# Altium footprint library Diodes.PCBLIB: 44 footprints (part 3 of 3)
Each footprint in its own frame and in the unit in brackets; x right, y up, seen from the top. Pads: shape width x height; smd on the part's side, far side on the other; paste and mask are expansions set on the pad; w line width, h text height; cw(c..) or ccw(c..) is an arc to the next point about the centre after c.
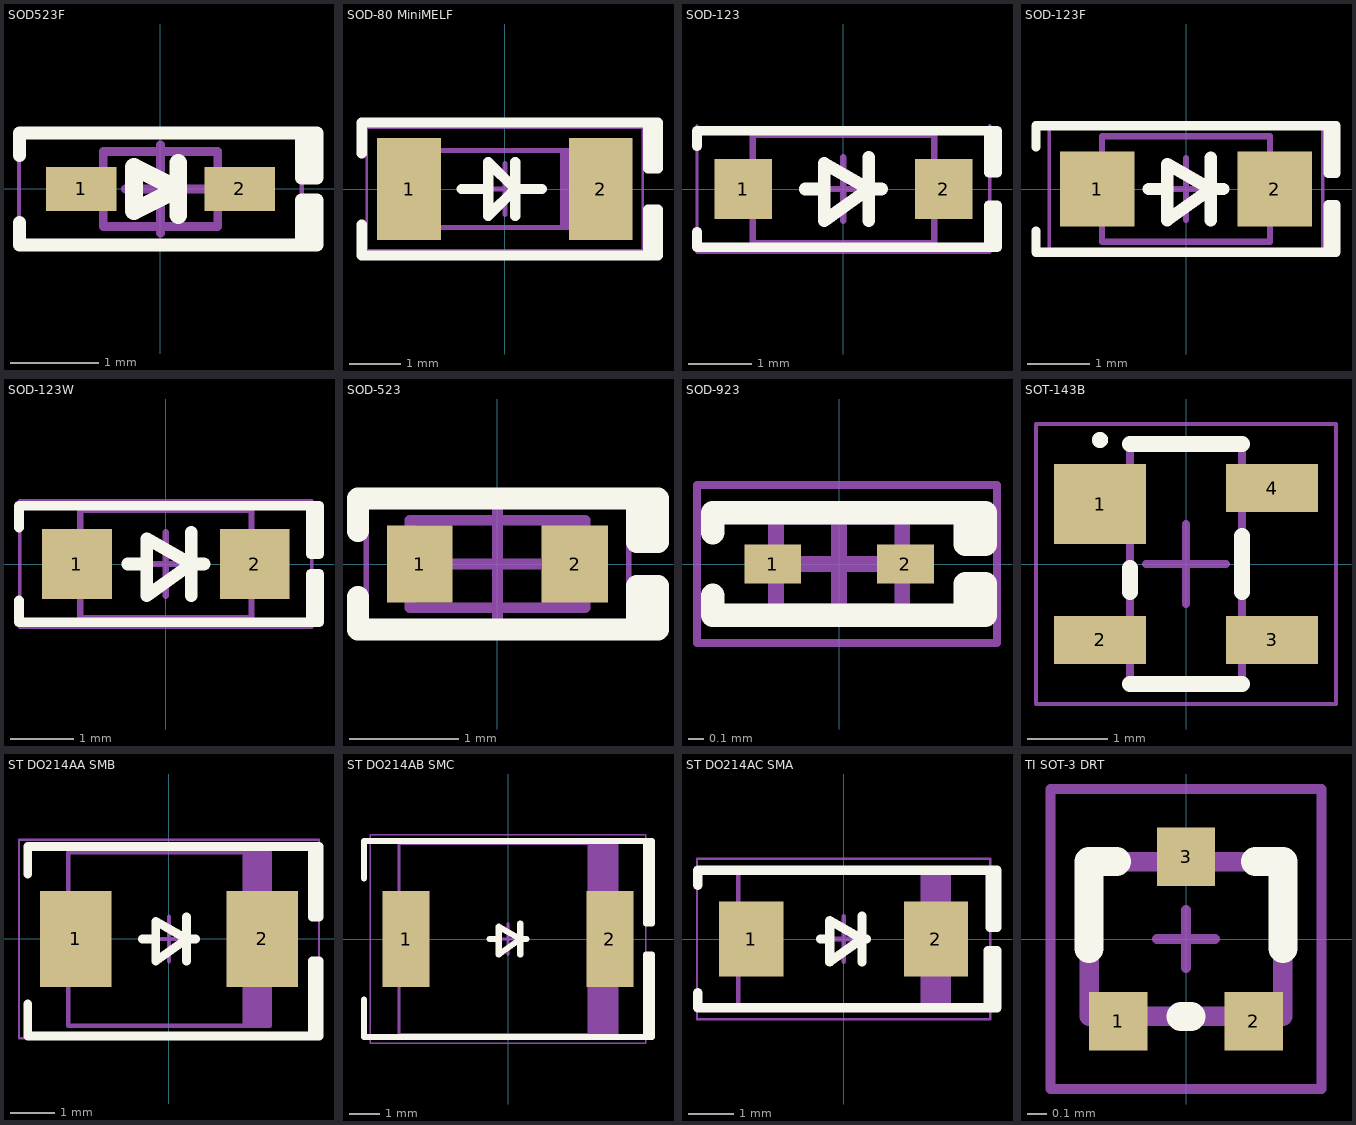
[diagram p2: the footprints below, top view; thin cyan lines are the x and y axes]

## SOD523F [mm] "SODFL, 2-Leads, Body 0.80x1.60mm, IPC Medium Density"
height 0.77
pads (2):
  rect 0.8x0.5 smd: 1(-0.9,0) 2(0.9,0)
Top Overlay:
  rectangle: 1.6,0.127 1.778,0.635
  rectangle: 1.6,-0.6 1.8,-0.127
  lines w0.15: -1.6,-0.381 -1.6,-0.635 1.651,-0.635 ; -1.6,0.381 -1.6,0.635 1.651,0.635 ; 1.6,-0.635 1.778,-0.635 1.778,-0.127 1.6,-0.127 1.6,-0.635 ; 1.6,0.127 1.6,0.635 1.778,0.635 1.778,0.127 1.6,0.127
  lines w0.2: 0.2,-0.3 0.2,0.3 ; -0.3,-0.25 -0.3,-0.1 -0.3,0.25 0.2,0 -0.3,-0.25
Mechanical 13:
  lines w0.1: -0.65,-0.425 0.65,-0.425 0.65,0.425 -0.65,0.425 -0.65,-0.425
Mechanical 15:
  lines w0.05: -1.606,-0.6 1.606,-0.6 1.606,0.6 -1.606,0.6 -1.606,-0.6
  lines w0.1: -0.4,0 0.6,0 ; 0,-0.5 0,0.5
3D body "SOD523F.STEP": height 0.65, standoff 0, extent -0.8,-0.4 0.8,0.4

## SOD-80 MiniMELF [mm] "Molded Diode, 2-Leads, Body 3.40x1.50mm, IPC Medium Density"
height 1.5
pads (2):
  rect 1.25x2 smd: 1(-1.875,0) 2(1.875,0)
Top Overlay:
  lines w0.2: -2.8,-0.7 -2.8,-1.3 2.994,-1.3 2.994,-0.4 2.8,-0.4 2.8,-1.2 ; -2.8,0.7 -2.8,1.3 2.994,1.3 2.994,0.4 2.8,0.4 2.8,1.2 ; -0.85,0 -0.325,0 ; 0.2,-0.525 0.2,0.525 ; 0.725,0 0.2,0 ; 0.2,0 -0.325,-0.525 -0.325,0.525 0.2,0
Mechanical 13:
  rectangle: 1.081,-0.75 1.7,0.75
  lines w0.1: -1.7,-0.75 -1.7,0.75 1.7,0.75 1.7,-0.75 -1.7,-0.75
Mechanical 15:
  lines w0.05: -2.7,-1.2 2.7,-1.2 2.7,1.2 -2.7,1.2 -2.7,-1.2
  lines w0.1: -0.5,0 0.5,0 ; 0,-0.5 0,0.5
3D body "SOD-80 MiniMELF.step": height 1.5, standoff 0, extent -1.7,-0.751 1.7,0.751

## SOD-123 [mm] "SOD, 2-Leads, Body 1.55x3.70mm, IPC Medium Density"
height 1.35
pads (2):
  rect 0.9x0.95 smd: 1(-1.575,0) 2(1.575,0)
Top Overlay:
  lines w0.15: -2.3,-0.675 -2.3,-0.916 2.286,-0.916 ; -2.3,0.675 -2.3,0.916 2.286,0.916 ; 2.286,-0.916 2.413,-0.916 2.413,-0.254 2.286,-0.254 2.286,-0.916 ; 2.286,0.916 2.286,0.254 2.413,0.254 2.413,0.916 2.286,0.916
  lines w0.2: -0.6,0 -0.3,0 ; 0.4,-0.5 0.4,0.5 ; 0.6,0 0.4,0 ; 0.4,0 -0.3,0.4 -0.3,-0.5 0.4,0
Mechanical 13:
  lines w0.1: -1.425,-0.85 -1.425,0.85 1.425,0.85 1.425,-0.85 -1.425,-0.85
Mechanical 15:
  lines w0.05: -2.3,0.9 2.3,0.9 ; -2.3,1 -2.3,-1 2.3,-1 2.3,1
  lines w0.1: -0.5,0 0.5,0 ; 0,-0.5 0,0.5
3D body "SOD-123.STEP": height 1.35, standoff 0, extent -1.864,-0.775 1.864,0.775

## SOD-123F [mm] "SODFL, 2-Leads, Body 1.60x3.50mm, IPC Medium Density"
height 1
pads (2):
  rect 1.2x1.2 smd: 1(-1.43,0) 2(1.43,0)
Top Overlay:
  lines w0.15: -2.413,-0.675 -2.413,-1.016 2.286,-1.016 ; -2.413,0.675 -2.413,1.016 2.286,1.016 ; 2.286,-1.016 2.286,-0.254 2.413,-0.254 2.413,-1.016 2.286,-1.016 ; 2.286,1.016 2.413,1.016 2.413,0.254 2.286,0.254 2.286,1.016
  lines w0.2: -0.6,0 -0.3,0 ; 0.4,-0.5 0.4,0.5 ; 0.6,0 0.4,0 ; 0.4,0 -0.3,-0.5 -0.3,0.4 0.4,0
Mechanical 13:
  lines w0.1: -1.35,-0.85 1.35,-0.85 1.35,0.85 -1.35,0.85 -1.35,-0.85
Mechanical 15:
  lines w0.05: -2.2,-1 2.2,-1 2.2,1 -2.2,1 -2.2,-1
  lines w0.1: -0.5,0 0.5,0 ; 0,-0.5 0,0.5
3D body "SOD123F.STEP": height 1.1, standoff 0, extent -1.75,-0.8 1.75,0.8

## SOD-123W [mm] "SODFL, 2-Leads, Body 1.60x3.50mm, IPC Medium Density"
height 1
pads (2):
  rect 1.1x1.1 smd: 1(-1.4,0) 2(1.4,0)
Top Overlay:
  lines w0.15: -2.313,-0.575 -2.313,-0.916 2.286,-0.916 ; -2.313,0.575 -2.313,0.916 2.286,0.916 ; 2.286,-0.916 2.413,-0.916 2.413,-0.154 2.286,-0.154 2.286,-0.916 ; 2.286,0.916 2.286,0.154 2.413,0.154 2.413,0.916 2.286,0.916
  lines w0.2: -0.6,0 -0.3,0 ; 0.4,-0.5 0.4,0.5 ; 0.6,0 0.4,0 ; 0.4,0 -0.3,0.4 -0.3,-0.5 0.4,0
Mechanical 13:
  lines w0.1: -1.35,-0.85 -1.35,0.85 1.35,0.85 1.35,-0.85 -1.35,-0.85
Mechanical 15:
  lines w0.05: -2.3,-1 -2.3,1 2.3,1 2.3,-1 -2.3,-1
  lines w0.1: -0.5,0 0.5,0 ; 0,-0.5 0,0.5
3D body "Nexperia - SOD-123W.step": height 0.95, standoff -0.15, extent -1.75,-0.87 1.75,0.87

## SOD-523 [mm] "Molded Diode, 2-Leads, Body 1.60x0.80mm, IPC Medium Density"
height 0.77
pads (2):
  rect 0.6x0.7 smd: 1(-0.71,0) 2(0.71,0)
Top Overlay:
  lines w0.2: -1.275,-0.3 -1.275,-0.6 1.469,-0.6 1.469,-0.2 1.275,-0.2 1.275,-0.6 ; -1.275,0.3 -1.275,0.6 1.469,0.6 1.469,0.2 1.275,0.2 1.275,0.6
Mechanical 13:
  rectangle: 0.4,-0.4 0.8,0.4
  lines w0.1: -0.8,-0.4 -0.8,0.4 0.8,0.4 0.8,-0.4 -0.8,-0.4
Mechanical 15:
  lines w0.05: -1.2,-0.6 1.2,-0.6 1.2,0.6 -1.2,0.6 -1.2,-0.6
  lines w0.1: -0.5,0 0.5,0 ; 0,-0.5 0,0.5
3D body "SOD-523.step": height 0.82, standoff -0.03, extent -0.8,-0.4 0.8,0.4

## SOD-923 [mm] "SODFL, 2-Leads, Body 0.6x0.80mm, IPC Medium Density"
height 0.43
pads (2):
  rect 0.36x0.25 smd: 1(-0.42,0) 2(0.42,0)
Top Overlay:
  lines w0.15: -0.8,-0.2 -0.8,-0.325 0.8,-0.325 ; -0.8,0.2 -0.8,0.325 0.8,0.325 ; 0.8,-0.325 0.8,-0.125 0.925,-0.125 0.925,-0.325 0.8,-0.325 ; 0.8,0.325 0.8,0.125 0.925,0.125 0.925,0.325 0.8,0.325
Mechanical 13:
  lines w0.1: -0.4,-0.3 -0.4,0.3 0.4,0.3 0.4,-0.3 -0.4,-0.3
Mechanical 15:
  lines w0.05: -0.9,-0.5 -0.9,0.5 1,0.5 1,-0.5 -0.9,-0.5
  lines w0.1: -0.25,0 0.25,0 ; 0,-0.25 0,0.25
3D body "SOD-923.step": height 0.44, standoff -0.02, extent -0.495,-0.299 0.495,0.314

## SOT-143B [mm] "SOT143, 4-Leads, Body 2.90x2.30mm, Pitch 1.90mm, IPC Medium Density"
height 1.1
pads (4):
  rect 1.15x1 smd: 1(-1.075,0.75)
  rect 1.15x0.6 smd: 2(-1.075,-0.95) 3(1.075,-0.95) 4(1.075,0.95)
Top Overlay:
  circle w0.1: c-1.075,1.55 r0.05
  lines w0.2: -0.7,-1.5 0.7,-1.5 ; -0.7,-0.35 -0.7,-0.05 ; -0.7,1.5 0.7,1.5 ; 0.7,-0.35 0.7,0.35
Mechanical 13:
  lines w0.1: -0.7,-1.5 -0.7,1.5 0.7,1.5 0.7,-1.5 -0.7,-1.5
Mechanical 15:
  lines w0.05: -1.875,-1.75 -1.875,1.75 1.875,1.75 1.875,-1.75 -1.875,-1.75
  lines w0.1: -0.5,0 0.5,0 ; 0,-0.5 0,0.5
3D body "SOT143B.STEP": height 1, standoff 0, extent -1.1,-1.45 1.1,1.45

## ST DO214AA SMB [mm] "Molded Diode, 2-Leads, Body 4.31x3.62mm, IPC Medium Density"
height 2.44
pads (2):
  rect 1.62x2.18 smd: 1(-2.11,0) 2(2.11,0)
Top Overlay:
  lines w0.2: -3.2,-1.475 -3.2,-2.2 3.25,-2.2 ; -3.2,1.475 -3.2,2.1 3.4,2.1 3.4,0.5 3.25,0.5 3.25,2.1 ; -0.6,0 -0.3,0 ; 0.4,-0.5 0.4,0.5 ; 0.6,0 0.4,0 ; 0.4,0 -0.3,0.4 -0.3,-0.5 0.4,0 ; 3.25,-2.2 3.4,-2.2 3.4,-0.5 3.25,-0.5 3.25,-2.2
Mechanical 13:
  rectangle: 1.67,-1.97 2.285,1.97
  lines w0.1: -2.285,-1.97 2.285,-1.97 2.285,1.97 -2.285,1.97 -2.285,-1.97
Mechanical 15:
  lines w0.05: -3.4,-2.25 3.4,-2.25 3.4,2.25 -3.4,2.25 -3.4,-2.25
  lines w0.1: -0.5,0 0.5,0 ; 0,-0.5 0,0.5
3D body "SMB.STEP": height 2.4, standoff 0, extent -2.6,-1.799 2.6,1.8

## ST DO214AB SMC [mm] "Molded Diode, 2-Leads, Body 6.85x5.90mm, IPC Medium Density"
height 2.62
pads (2):
  rect 1.54x3.14 smd: 1(-3.325,0) 2(3.325,0)
Top Overlay:
  lines w0.2: -4.7,-1.975 -4.7,-3.2 4.7,-3.2 4.7,-0.5 4.5,-0.5 4.5,-3.2 ; -4.7,1.975 -4.7,3.2 4.7,3.2 4.7,0.5 4.5,0.5 4.5,3.2 ; -0.6,0 -0.3,0 ; 0.4,-0.5 0.4,0.5 ; 0.6,0 0.4,0 ; 0.4,0 -0.3,0.4 -0.3,-0.5 0.4,0
Mechanical 13:
  rectangle: 2.599,-3.11 3.555,3.11
  lines w0.1: -3.555,-3.11 -3.555,3.11 3.555,3.11 3.555,-3.11 -3.555,-3.11
Mechanical 15:
  lines w0.05: -4.5,-3.4 -4.5,3.4 4.5,3.4 4.5,-3.4 -4.5,-3.4
  lines w0.1: -0.5,0 0.5,0 ; 0,-0.5 0,0.5
3D body "SMC.STEP": height 2.6, standoff 0, extent -3.97,-2.952 3.97,2.952

## ST DO214AC SMA [mm] "Molded Diode, 2-Leads, Body 4.30x2.60mm, IPC Medium Density"
height 2.4
pads (2):
  rect 1.4x1.64 smd: 1(-2.015,0) 2(2.015,0)
Top Overlay:
  lines w0.2: -3.183,-1.175 -3.183,-1.5 3.35,-1.5 3.35,-0.254 3.156,-0.254 3.156,-1.5 ; -3.183,1.175 -3.183,1.5 3.35,1.5 3.35,0.254 3.2,0.254 3.2,1.5 ; -0.5,0 -0.3,0 ; 0.4,-0.5 0.4,0.5 ; 0.5,0 0.4,0 ; 0.4,0 -0.3,0.4 -0.3,-0.5 0.4,0
Mechanical 13:
  rectangle: 1.681,-1.46 2.3,1.46
  lines w0.1: -2.3,-1.46 -2.3,1.46 2.3,1.46 2.3,-1.46 -2.3,-1.46
Mechanical 15:
  lines w0.05: -3.2,-1.75 -3.2,1.75 3.2,1.75 3.2,-1.75 -3.2,-1.75
  lines w0.1: -0.5,0 0.5,0 ; 0,-0.5 0,0.5
3D body "SMA.STEP": height 2.4, standoff 0, extent -2.6,-1.375 2.6,1.375

## TI SOT-3 DRT [mm] "Diode, 3-Leads, Body 1 x 0.8mm,"
height 0.5
pads (3):
  rect 0.3x0.3 smd mask+0.07: 1(-0.35,-0.425) 2(0.35,-0.425) 3(0,0.425)
Top Overlay:
  lines w0.15: -0.5,-0.05 -0.5,0.4 -0.358,0.4 ; -0.025,-0.4 0.025,-0.4 ; 0.358,0.4 0.5,0.4 0.5,-0.05
Mechanical 13:
  lines w0.1: -0.5,-0.4 0.5,-0.4 0.5,0.4 -0.5,0.4 -0.5,-0.4
Mechanical 15:
  lines w0.05: -0.15,0 0.15,0 ; 0,-0.15 0,0.15 ; -0.7,-0.775 0.7,-0.775 0.7,0.775 -0.7,0.775 -0.7,-0.775
3D body "TI - SOT3 - DRT.step": height 0.5, standoff 0, extent -0.499,-0.5 0.498,0.5